# Altium footprint library JLC_Lib.PcbLib: 9 footprints
Each footprint in its own frame and in the unit in brackets; x right, y up, seen from the top. Pads: shape width x height; smd on the part's side, far side on the other; paste and mask are expansions set on the pad; w line width, h text height; cw(c..) or ccw(c..) is an arc to the next point about the centre after c.
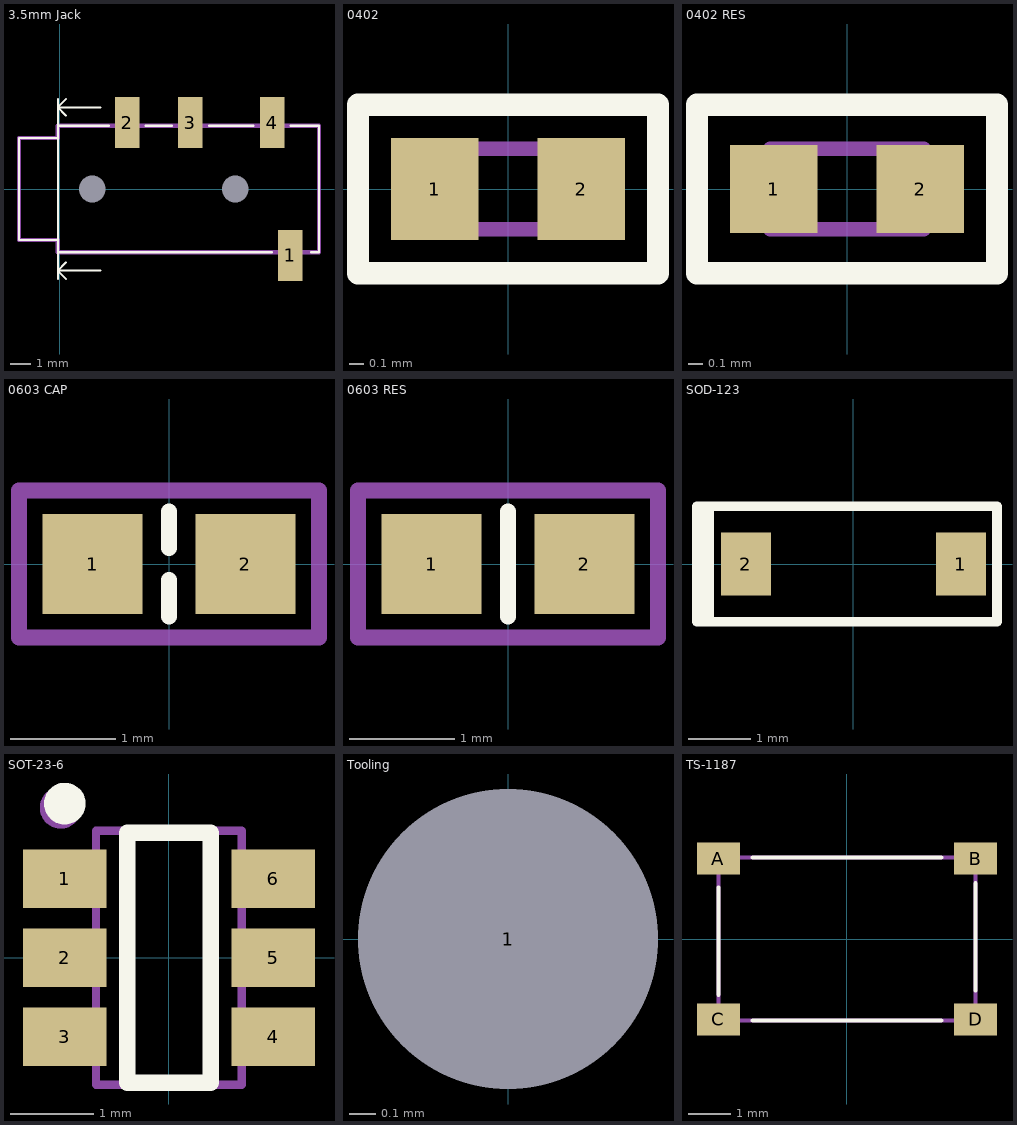
[diagram p0: the footprints below, top view; thin cyan lines are the x and y axes]

## 3.5mm Jack [mm]
pads (6):
  rect 1.2x2.5 smd: 1(11.3,-3.25) 2(3.3,3.25) 3(6.4,3.25) 4(10.4,3.25)
  round 0 hole 1.3 unplated paste+0 mask+0: ""(1.6,0) ""(8.6,0)
Top Overlay:
  lines w0.1: -0.1,-4.4 -0.1,0.1 ; -0.1,-3.1 10.4,-3.1 ; -0.1,-2.5 -2,-2.5 -2,2.5 -0.1,2.5 ; -0.1,-0.1 -0.1,4.4 ; -0.1,3.1 2.4,3.1 ; 0.3,-4.4 -0.1,-4 ; 0.3,-3.6 -0.1,-4 ; 0.3,3.6 -0.1,4 ; 0.3,4.4 -0.1,4 ; 2,-4 -0.1,-4 ; 2,4 -0.1,4 ; 4.2,3.1 5.5,3.1 ; 7.3,3.1 9.5,3.1 ; 11.3,3.1 12.7,3.1 12.7,-3.1 12.3,-3.1
Mechanical 13:
  lines w0.2: -2,-2.5 -0.1,-2.5 -0.1,-3.1 12.7,-3.1 12.7,3.1 -0.1,3.1 -0.1,2.5 -2,2.5 -2,-2.5
  text "'.Designator'" at 2.9,-1.2 h3
3D body: height 5, standoff 0, extent -2,-2.497 0,2.497
3D body: height 5, standoff 0, extent 0,-3 12.6,3

## 0402 [mm] "Chip Capacitor, 2-Leads, Body 1.00x0.50mm, IPC Medium Density"
height 0.55
pads (2):
  rect 0.6x0.7 smd: 1(-0.5,0) 2(0.5,0)
Top Overlay:
  lines w0.152: -1.025,-0.575 -1.025,0.575 1.025,0.575 1.025,-0.575 -1.025,-0.575
Mechanical 13:
  lines w0.1: -0.525,-0.275 -0.525,0.275 0.525,0.275 0.525,-0.275 -0.525,-0.275
  text "'.Designator'" at -0.45,-0.15 h0.3
3D body: height 0.55, standoff 0, extent -0.275,-0.275 0.275,0.275
3D body: height 0.55, standoff 0, extent -0.525,-0.275 -0.275,0.275
3D body: height 0.55, standoff 0, extent 0.275,-0.275 0.525,0.275

## 0402 RES [mm]
height 0.35
pads (2):
  rect 0.6x0.6 smd mask+0.1: 1(-0.5,0) 2(0.5,0)
Top Overlay:
  lines w0.152: -1.025,-0.575 1.025,-0.575 1.025,0.575 -1.025,0.575 -1.025,-0.575
Mechanical 13:
  lines w0.1: -0.525,-0.275 0.525,-0.275 0.525,0.275 -0.525,0.275 -0.525,-0.275
  text "'.Designator'" at -0.45,-0.15 h0.3
3D body: height 0.35, standoff 0, extent -0.275,-0.275 0.275,0.275
3D body: height 0.35, standoff 0, extent -0.525,-0.275 -0.275,0.275
3D body: height 0.35, standoff 0, extent 0.275,-0.275 0.525,0.275

## 0603 CAP [mm]
height 0.9
pads (2):
  rect 0.95x0.95 smd: 1(-0.725,0) 2(0.725,0)
Top Overlay:
  lines w0.152: 0,-0.5 0,-0.15 ; 0,0.15 0,0.5
Mechanical 13:
  lines w0.152: -1.425,-0.7 1.425,-0.7 1.425,0.7 -1.425,0.7 -1.425,-0.7
  text "'.Designator'" at -0.5,-0.2 h0.5
3D body "0603 CAP.step": height 0.9, standoff 0, extent -0.85,-0.45 0.85,0.45

## 0603 RES [mm]
height 0.55
pads (2):
  rect 0.95x0.95 smd: 1(-0.725,0) 2(0.725,0)
Top Overlay:
  lines w0.152: 0,-0.5 0,0.5
Mechanical 13:
  lines w0.152: -1.425,-0.7 1.425,-0.7 1.425,0.7 -1.425,0.7 -1.425,-0.7
  text "'.Designator'" at -0.5,-0.2 h0.5
3D body "0603 RES.step": height 0.55, standoff 0, extent -0.85,-0.45 0.85,0.45

## SOD-123 [mm] "SOD, 2-Leads, Body 1.60x3.70mm, IPC Medium Density"
height 1.25
pads (2):
  rect 0.8x1 smd: 1(1.72,0) 2(-1.72,0)
Top Overlay:
  rectangle: -2.45,-0.925 -2.225,0.925
  lines w0.152: -2.5,-0.925 2.3,-0.925 2.3,0.925 -2.5,0.925 -2.5,-0.925
3D body "SOD-123.step": height 1.25, standoff 0, extent -1.85,-0.85 1.85,0.85
3D body: height 3.25, standoff -3.25, extent -0.675,-0.2 -0.675,-0.2
3D body: height 1.26, standoff 1.25, extent -1.2,-0.675 -0.95,0.7

## SOT-23-6 [mm] "SOT23, 6-Leads, Body 2.90x2.80mm, Pitch 0.95mm, IPC Medium Density"
height 1.45
pads (6):
  rect 1x0.7 smd mask+0.05: 1(-1.25,0.95) 2(-1.25,0) 3(-1.25,-0.95) 4(1.25,-0.95) 5(1.25,0) 6(1.25,0.95)
Top Overlay:
  circle w0.25: c-1.25,1.85 r0.125
  lines w0.2: -0.5,-1.5 0.5,-1.5 0.5,1.5 -0.5,1.5 -0.5,-1.5
Top Solder:
  region: 1.8,-0.584 0.7,-0.584 0.7,-1.325 1.8,-1.325
  rectangle: -1.8,-1.325 -0.7,-0.584
  region: 1.8,1.325 0.7,1.325 0.7,0.584 1.8,0.584
  region: 1.8,0.381 0.7,0.381 0.7,-0.375 1.8,-0.375
  rectangle: -1.8,0.584 -0.7,1.325
  rectangle: -1.8,-0.375 -0.7,0.381
Mechanical 13:
  circle w0.25: c-1.3,1.8 r0.125
  lines w0.1: -0.875,-1.525 0.875,-1.525 0.875,1.525 -0.875,1.525 -0.875,-1.525
  text "'.Designator'" at 0.5,-1.2 h1
3D body "SOT95P280X145-6N.step": height 1.45, standoff 0, extent -1.5,-1.5 1.5,1.5

## Tooling [mm]
pads (1):
  oval 1.152x1.125 hole 1.152 unplated paste+1.152 mask+0.148: 1(0,0)

## TS-1187 [mm] "TACTILE SWITCH"
height 2.65
pads (4):
  rect 1x0.75 smd: A(-3,1.875) B(3,1.875) C(-3,-1.875) D(3,-1.875)
Top Overlay:
  lines w0.1: -3,-1.3 -3,1.2 ; -2.2,-1.9 2.2,-1.9 ; -2.2,1.9 2.2,1.9 ; 3,-1.2 3,1.3
Mechanical 13:
  lines w0.1: -3,-1.9 3,-1.9 3,1.9 -3,1.9 -3,-1.9
  text "'.Designator'" at -1.9,-0.5 h1
3D body "ts-1187a-b-a-b.stp": height 1.5, standoff 0, extent -3.25,-2.55 3.25,2.55